# Altium schematic symbol library WE-MCA.SchLib: 17 symbols
Pins are listed as number, name and electrical type; pins without a type are passive.

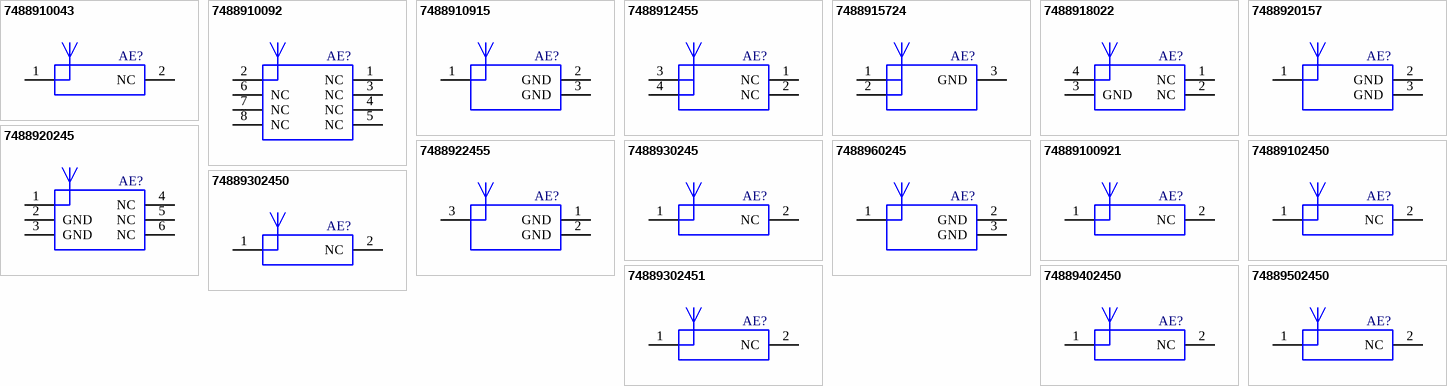
[diagram p0: symbols 7488910043 to 74889502450]

## 7488910043
designator AE?  (value not drawn)
WE-MCA SMT Multilayer Chip Antenna, 1 Band, 423-443MHz, 50Ohm; Manufacturer: Wurth Elektronik; Number of Bands: 1; Peak Gain: -4dBi; VSWR: 2; Manufacturer Part Number: 7488910043; Category: Antennas; Match Code: WE-MCA; ComponentLink1Description: Website Link; ComponentLink1URL: https://www.we-online.com/redexpert/article/7488910043?ad; ComponentLink2Description: Datasheet Link; ComponentLink2URL: https://www.we-online.com/redexpert/spec/7488910043?ad; Mount: Surface Mount; Min Operating Temperature: -55°C; Max Operating Temperature: 125°C; Packaging: Tape and Reel; Length: 25mm; Width: 5mm; Height: 1.2mm; Frequency Range: 423-443MHz; Impedance: 50Ohm
footprint 7488910043
pins: 1 Feed, 2 NC

## 7488910092
designator AE?  (value not drawn)
WE-MCA SMT Multilayer Chip Antenna, 1 Band, 868-960MHz, 50Ohm; Manufacturer: Wurth Elektronik; Number of Bands: 1; Peak Gain: -0.7dBi; VSWR: 2.5; Manufacturer Part Number: 7488910092; Category: Antennas; Match Code: WE-MCA; ComponentLink1Description: Website Link; ComponentLink1URL: https://www.we-online.com/redexpert/article/7488910092?ad; ComponentLink2Description: Datasheet Link; ComponentLink2URL: https://www.we-online.com/redexpert/spec/7488910092?ad; Mount: Surface Mount; Min Operating Temperature: -55°C; Max Operating Temperature: 125°C; Packaging: Tape and Reel; Length: 11mm; Width: 5.1mm; Height: 1.5mm; Frequency Range: 868-960MHz; Impedance: 50Ohm
footprint 7488910092
pins: 1 NC, 2 Feed, 3 NC, 4 NC, 5 NC, 6 NC, 7 NC, 8 NC

## 7488910915
designator AE?  (value not drawn)
WE-MCA SMT Multilayer Chip Antenna, 1 Band, 902-928MHz, 50Ohm; Manufacturer: Wurth Elektronik; Number of Bands: 1; Peak Gain: 0.5dBi; VSWR: 3; Manufacturer Part Number: 7488910915; Category: Antennas; Match Code: WE-MCA; ComponentLink1Description: Website Link; ComponentLink1URL: https://www.we-online.com/redexpert/article/7488910915?ad; ComponentLink2Description: Datasheet Link; ComponentLink2URL: https://www.we-online.com/redexpert/spec/7488910915?ad; Mount: Surface Mount; Min Operating Temperature: -55°C; Max Operating Temperature: 125°C; Packaging: Tape and Reel; Length: 5.2mm; Width: 3.7mm; Height: 0.7mm; Frequency Range: 902-928MHz; Impedance: 50Ohm
footprint 7488910915
pins: 1 Feed, 2 GND, 3 GND

## 7488912455
designator AE?  (value not drawn)
WE-MCA SMT Multilayer Chip Antenna, 2 Bands, 2400-2500MHz & 4900-5875MHz, 50Ohm; Manufacturer: Wurth Elektronik; Number of Bands: 2; Peak Gain: 1dBi; Peak Gain 2: -1.5dBi; VSWR: 2.2; Manufacturer Part Number: 7488912455; Category: Antennas; Match Code: WE-MCA; ComponentLink1Description: Website Link; ComponentLink1URL: https://www.we-online.com/redexpert/article/7488912455?ad; ComponentLink2Description: Datasheet Link; ComponentLink2URL: https://www.we-online.com/redexpert/spec/7488912455?ad; Mount: Surface Mount; Min Operating Temperature: -55°C; Max Operating Temperature: 125°C; Packaging: Tape and Reel; Length: 8.5mm; Width: 1.6mm; Height: 1.2mm; Frequency Range: 2400-2500MHz; Frequency Range 2: 4900-5875MHz; Impedance: 50Ohm; VSWR 2: 2.2
footprint 7488912455
pins: 1 NC, 2 NC, 3 Feed_Low Band, 4 Feed_High Band

## 7488915724
designator AE?  (value not drawn)
WE-MCA SMT Multilayer Chip Antenna, 2 Bands, 1570-1580MHz & 2400-2500MHz, 50Ohm; Manufacturer: Wurth Elektronik; Number of Bands: 2; Peak Gain: 0.69dBi; Peak Gain 2: 0.97dBi; VSWR: 2.5; Manufacturer Part Number: 7488915724; Category: Antennas; Match Code: WE-MCA; ComponentLink1Description: Website Link; ComponentLink1URL: https://www.we-online.com/redexpert/article/7488915724?ad; ComponentLink2Description: Datasheet Link; ComponentLink2URL: https://www.we-online.com/redexpert/spec/7488915724?ad; Mount: Surface Mount; Min Operating Temperature: -55°C; Max Operating Temperature: 125°C; Packaging: Tape and Reel; Length: 3.2mm; Width: 1.7mm; Height: 0.5mm; Frequency Range: 1570-1580MHz; Frequency Range 2: 2400-2500MHz; Impedance: 50Ohm; VSWR 2: 2.5
footprint 7488915724
pins: 1 Feed1, 2 Feed2, 3 GND

## 7488918022
designator AE?  (value not drawn)
WE-MCA SMT Multilayer Chip Antenna, 1 Band, 700-960MHz & 1710-2690MHz, 50Ohm; Manufacturer: Wurth Elektronik; Number of Bands: 1; Peak Gain: 2.1dBi; Peak Gain 2: 5.5dBi; VSWR: 4; Manufacturer Part Number: 7488918022; Category: Antennas; Match Code: WE-MCA; ComponentLink1Description: Website Link; ComponentLink1URL: https://www.we-online.com/redexpert/article/7488918022?ad; ComponentLink2Description: Datasheet Link; ComponentLink2URL: https://www.we-online.com/redexpert/spec/7488918022?ad; Mount: Surface Mount; Min Operating Temperature: -55°C; Max Operating Temperature: 125°C; Packaging: Tape and Reel; Length: 40mm; Width: 5mm; Height: 6mm; Frequency Range: 700-960MHz; Frequency Range 2: 1710-2690MHz; Impedance: 50Ohm; VSWR 2: 4
footprint 7488918022
pins: 1 NC, 2 NC, 3 GND, 4 Feed

## 7488920157
designator AE?  (value not drawn)
WE-MCA SMT Multilayer Chip Antenna, 1 Band, 1550-1600MHz, 50Ohm; Manufacturer: Wurth Elektronik; Number of Bands: 1; Peak Gain: 3.4dBi; VSWR: 2; Manufacturer Part Number: 7488920157; Category: Antennas; Match Code: WE-MCA; ComponentLink1Description: Website Link; ComponentLink1URL: https://www.we-online.com/redexpert/article/7488920157?ad; ComponentLink2Description: Datasheet Link; ComponentLink2URL: https://www.we-online.com/redexpert/spec/7488920157?ad; Mount: Surface Mount; Min Operating Temperature: -55°C; Max Operating Temperature: 125°C; Packaging: Tape and Reel; Length: 5.2mm; Width: 3.7mm; Height: 0.7mm; Frequency Range: 1550-1600MHz; Impedance: 50Ohm
footprint 7488920157
pins: 1 Feed, 2 GND, 3 GND

## 7488920245
designator AE?  (value not drawn)
WE-MCA SMT Multilayer Chip Antenna, 1 Band, 2400-2500MHz, 50Ohm; Manufacturer: Wurth Elektronik; Number of Bands: 1; Peak Gain: 1.3dBi; VSWR: 2; Manufacturer Part Number: 7488920245; Category: Antennas; Match Code: WE-MCA; ComponentLink1Description: Website Link; ComponentLink1URL: https://www.we-online.com/redexpert/article/7488920245?ad; ComponentLink2Description: Datasheet Link; ComponentLink2URL: https://www.we-online.com/redexpert/spec/7488920245?ad; Mount: Surface Mount; Min Operating Temperature: -55°C; Max Operating Temperature: 125°C; Packaging: Tape and Reel; Length: 7.6mm; Width: 3.5mm; Height: 1.1mm; Frequency Range: 2400-2500MHz; Impedance: 50Ohm
footprint 7488920245
pins: 1 Feed, 2 GND, 3 GND, 4 NC, 5 NC, 6 NC

## 7488922455
designator AE?  (value not drawn)
WE-MCA SMT Multilayer Chip Antenna, 2 Bands, 2400-2500MHz & 5000-6000MHz, 50Ohm; Manufacturer: Wurth Elektronik; Number of Bands: 2; Peak Gain: 3dBi; Peak Gain 2: 3.3dBi; Manufacturer Part Number: 7488922455; Category: Antennas; Match Code: WE-MCA; ComponentLink1Description: Website Link; ComponentLink1URL: https://www.we-online.com/redexpert/article/7488922455?ad; ComponentLink2Description: Datasheet Link; ComponentLink2URL: https://www.we-online.com/redexpert/spec/7488922455?ad; Mount: Surface Mount; Min Operating Temperature: -55°C; Max Operating Temperature: 125°C; Packaging: Tape and Reel; Length: 5.2mm; Width: 3.7mm; Height: 0.7mm; Frequency Range: 2400-2500MHz; Frequency Range 2: 5000-6000MHz; Impedance: 50Ohm; VSWR: 2; VSWR 2: 2
footprint 7488922455
pins: 1 GND, 2 GND, 3 Feed

## 7488930245
designator AE?  (value not drawn)
WE-MCA SMT Multilayer Chip Antenna, 1 Band, 2400-2500MHz, 50Ohm; Manufacturer: Wurth Elektronik; Number of Bands: 1; Peak Gain: 0.5dBi; VSWR: 2; Manufacturer Part Number: 7488930245; Category: Antennas; Match Code: WE-MCA; ComponentLink1Description: Website Link; ComponentLink1URL: https://www.we-online.com/redexpert/article/7488930245?ad; ComponentLink2Description: Datasheet Link; ComponentLink2URL: https://www.we-online.com/redexpert/spec/7488930245?ad; Mount: Surface Mount; Min Operating Temperature: -55°C; Max Operating Temperature: 125°C; Packaging: Tape and Reel; Length: 3.2mm; Width: 1.6mm; Height: 1.3mm; Frequency Range: 2400-2500MHz; Impedance: 50Ohm
footprint 7488930245
pins: 1 Feed, 2 NC

## 7488960245
designator AE?  (value not drawn)
WE-MCA SMT Multilayer Chip Antenna, 1 Band, 2400-2500MHz, 50Ohm; Manufacturer: Wurth Elektronik; Number of Bands: 1; Peak Gain: 3dBi; VSWR: 2.5; Manufacturer Part Number: 7488960245; Category: Antennas; Match Code: WE-MCA; ComponentLink1Description: Website Link; ComponentLink1URL: https://www.we-online.com/redexpert/article/7488960245?ad; ComponentLink2Description: Datasheet Link; ComponentLink2URL: https://www.we-online.com/redexpert/spec/7488960245?ad; Mount: Surface Mount; Min Operating Temperature: -55°C; Max Operating Temperature: 125°C; Packaging: Tape and Reel; Length: 5.2mm; Width: 3.7mm; Height: 0.7mm; Frequency Range: 2400-2500MHz; Impedance: 50Ohm
footprint 7488960245
pins: 1 Feed, 2 GND, 3 GND

## 74889100921
designator AE?  (value not drawn)
WE-MCA SMT Multilayer Chip Antenna, 1 Band, 860-960MHz, 50Ohm; Manufacturer: Wurth Elektronik; Number of Bands: 1; Peak Gain: -0.7dBi; VSWR: 2; Manufacturer Part Number: 74889100921; Category: Antennas; Match Code: WE-MCA; ComponentLink1Description: Website Link; ComponentLink1URL: https://www.we-online.com/redexpert/article/74889100921?ad; ComponentLink2Description: Datasheet Link; ComponentLink2URL: https://www.we-online.com/redexpert/spec/74889100921?ad; Mount: Surface Mount; Min Operating Temperature: -55°C; Max Operating Temperature: 125°C; Packaging: Tape and Reel; Length: 11.2mm; Width: 5.1mm; Height: 1.5mm; Frequency Range: 860-960MHz; Impedance: 50Ohm
footprint 74889100921
pins: 1 Feed, 2 NC

## 74889102450
designator AE?  (value not drawn)
WE-MCA SMT Multilayer Chip Antenna, 1 Band, 2400-2500MHz, 50Ohm; Manufacturer: Wurth Elektronik; Number of Bands: 1; Peak Gain: 3dBi; VSWR: 2; Manufacturer Part Number: 74889102450; Category: Antennas; Match Code: WE-MCA; ComponentLink1Description: Website Link; ComponentLink1URL: https://www.we-online.com/redexpert/article/74889102450?ad; ComponentLink2Description: Datasheet Link; ComponentLink2URL: https://www.we-online.com/redexpert/spec/74889102450?ad; Mount: Surface Mount; Min Operating Temperature: -55°C; Max Operating Temperature: 125°C; Packaging: Tape and Reel; Length: 9mm; Width: 2mm; Height: 1mm; Frequency Range: 2400-2500MHz; Impedance: 50Ohm
footprint 74889102450
pins: 1 Feed, 2 NC

## 74889302450
designator AE?  (value not drawn)
WE-MCA SMT Multilayer Chip Antenna, 1 Band, 2400-2500MHz, 50Ohm; Manufacturer: Wurth Elektronik; Number of Bands: 1; Peak Gain: 0.5dBi; VSWR: 2; Manufacturer Part Number: 74889302450; Category: Antennas; Match Code: WE-MCA; ComponentLink1Description: Website Link; ComponentLink1URL: https://www.we-online.com/redexpert/article/74889302450?ad; ComponentLink2Description: Datasheet Link; ComponentLink2URL: https://www.we-online.com/redexpert/spec/74889302450?ad; Mount: Surface Mount; Min Operating Temperature: -55°C; Max Operating Temperature: 125°C; Packaging: Tape and Reel; Length: 3.2mm; Width: 1.6mm; Height: 1.2mm; Frequency Range: 2400-2500MHz; Impedance: 50Ohm
footprint 74889302450
pins: 1 Feed, 2 NC

## 74889302451
designator AE?  (value not drawn)
WE-MCA SMT Multilayer Chip Antenna, 1 Band, 2400-2500MHz, 50Ohm; Manufacturer: Wurth Elektronik; Number of Bands: 1; Peak Gain: 0.5dBi; VSWR: 1.6; Manufacturer Part Number: 74889302451; Category: Antennas; Match Code: WE-MCA; ComponentLink1Description: Website Link; ComponentLink1URL: https://www.we-online.com/redexpert/article/74889302451?ad; ComponentLink2Description: Datasheet Link; ComponentLink2URL: https://www.we-online.com/redexpert/spec/74889302451?ad; Mount: Surface Mount; Min Operating Temperature: -55°C; Max Operating Temperature: 125°C; Packaging: Tape and Reel; Length: 3.2mm; Width: 1.6mm; Height: 1.1mm; Frequency Range: 2400-2500MHz; Impedance: 50Ohm
footprint 74889302451
pins: 1 Feed, 2 NC

## 74889402450
designator AE?  (value not drawn)
WE-MCA SMT Multilayer Chip Antenna, 1 Band, 2400-2500MHz, 50Ohm; Manufacturer: Wurth Elektronik; Number of Bands: 1; Peak Gain: 2.7dBi; VSWR: 2; Manufacturer Part Number: 74889402450; Category: Antennas; Match Code: WE-MCA; ComponentLink1Description: Website Link; ComponentLink1URL: https://www.we-online.com/redexpert/article/74889402450?ad; ComponentLink2Description: Datasheet Link; ComponentLink2URL: https://www.we-online.com/redexpert/spec/74889402450?ad; Mount: Surface Mount; Min Operating Temperature: -55°C; Max Operating Temperature: 125°C; Packaging: Tape and Reel; Length: 7mm; Width: 2mm; Height: 1mm; Frequency Range: 2400-2500MHz; Impedance: 50Ohm
footprint 74889402450
pins: 1 Feed, 2 NC

## 74889502450
designator AE?  (value not drawn)
WE-MCA SMT Multilayer Chip Antenna, 1 Band, 2400-2500MHz, 50Ohm; Manufacturer: Wurth Elektronik; Number of Bands: 1; Peak Gain: 2.5dBi; VSWR: 2; Manufacturer Part Number: 74889502450; Category: Antennas; Match Code: WE-MCA; ComponentLink1Description: Website Link; ComponentLink1URL: https://www.we-online.com/redexpert/article/74889502450?ad; ComponentLink2Description: Datasheet Link; ComponentLink2URL: https://www.we-online.com/redexpert/spec/74889502450?ad; Mount: Surface Mount; Min Operating Temperature: -55°C; Max Operating Temperature: 125°C; Packaging: Tape and Reel; Length: 5.2mm; Width: 2.1mm; Height: 1mm; Frequency Range: 2400-2500MHz; Impedance: 50Ohm
footprint 74889502450
pins: 1 Feed, 2 NC